# Altium footprint library PcbLib1.PcbLib: 202 footprints (part 11 of 13)
Each footprint in its own frame and in the unit in brackets; x right, y up, seen from the top. Pads: shape width x height; smd on the part's side, far side on the other; paste and mask are expansions set on the pad; w line width, h text height; cw(c..) or ccw(c..) is an arc to the next point about the centre after c.
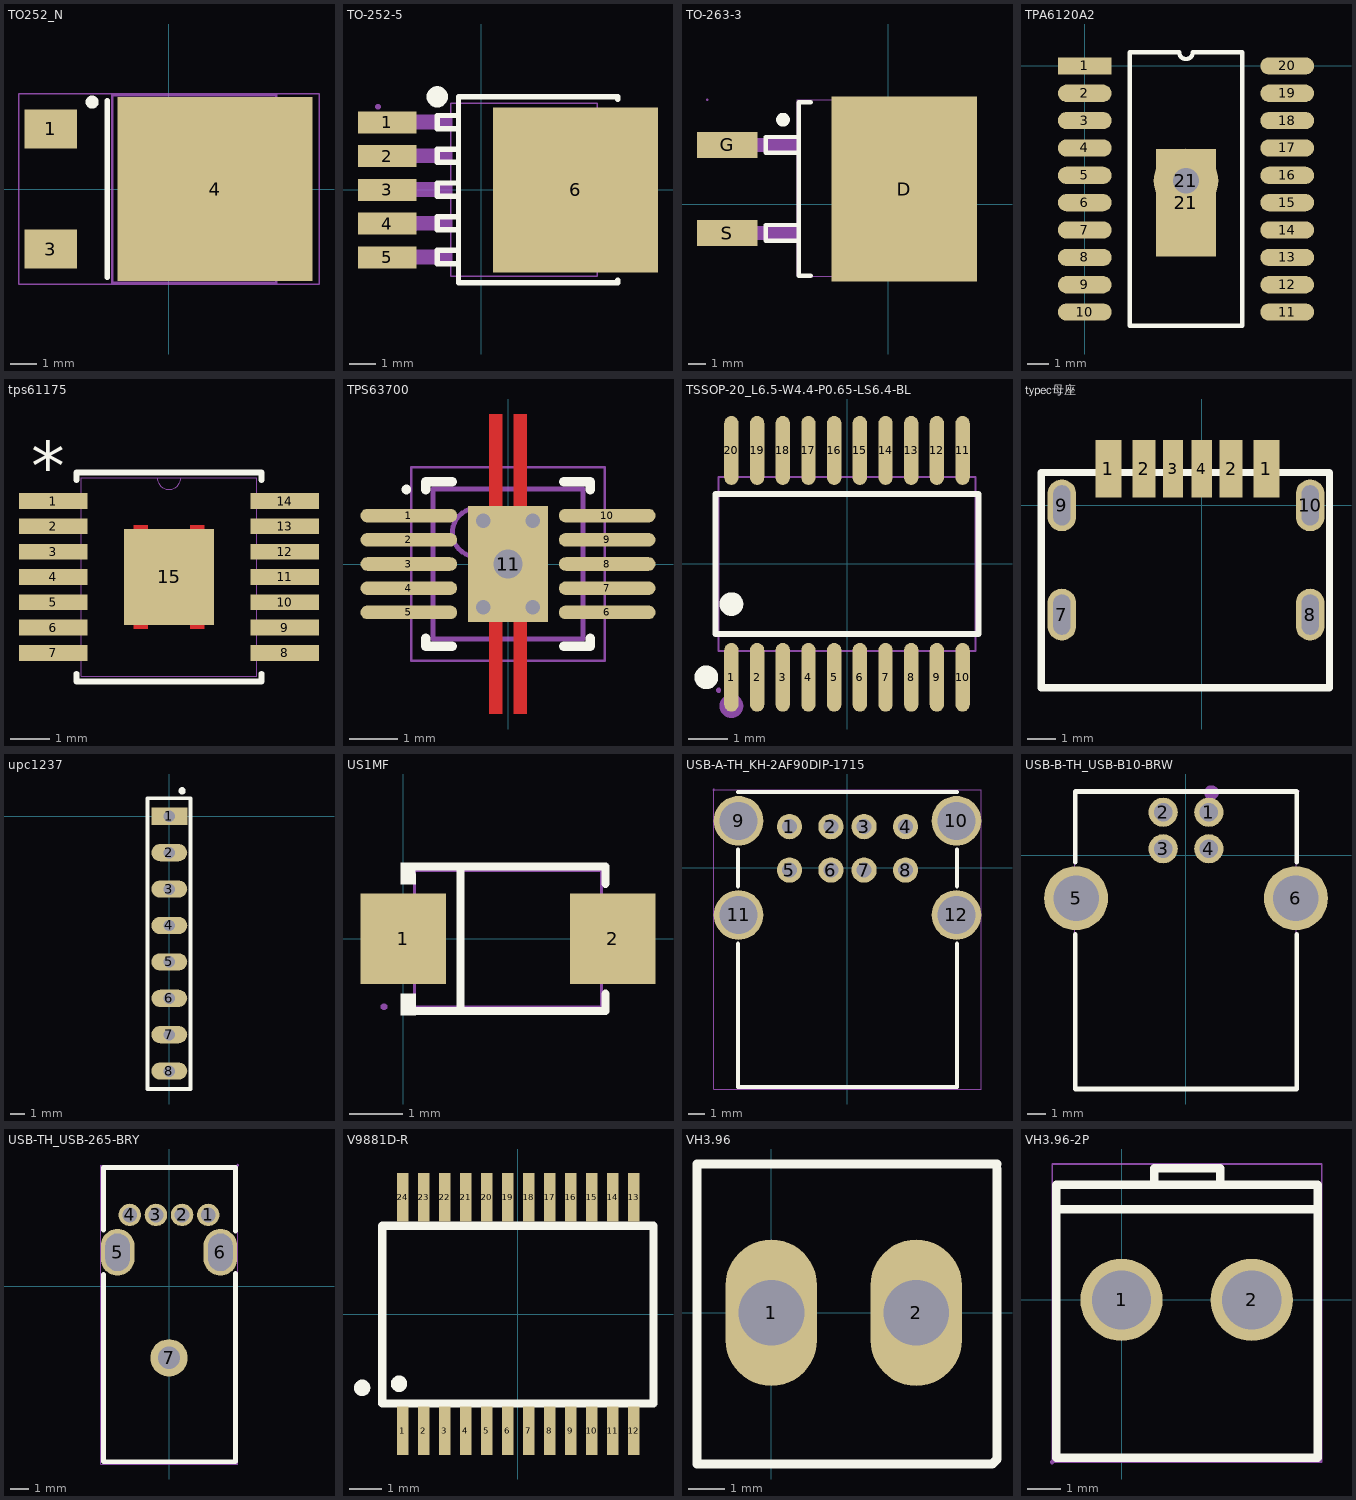
[diagram p10: the footprints below, top view; thin cyan lines are the x and y axes]

## TO252_N [mm] "D-PAK, 4-Leads, Body 6.1x6.6mm, Pitch 2.28mm, Lead Span 10mm, IPC Medium Density"
height 2.39
pads (3):
  rect 2x1.5 smd: 1(-4.5,2.28) 3(-4.5,-2.28)
  rect 7.4x7 smd: 4(1.75,0)
Top Overlay:
  circle w0.25: c-2.921,3.302 r0.125
  lines w0.2: -2.35,-3.35 -2.35,3.35
Mechanical 13:
  lines w0.1: -2.15,-3.556 -2.15,3.556 4.07,3.556 4.07,-3.556 -2.15,-3.556
Mechanical 15:
  lines w0.05: -5.7,-3.625 -5.7,3.625 5.7,3.625 5.7,-3.625 -5.7,-3.625
  lines w0.1: -0.5,0 0.5,0 ; 0,-0.5 0,0.5
3D body: height 2.39, standoff 0.03, extent -2.15,-3.375 4.07,3.375

## TO-252-5 [mil]
pads (6):
  rect 86.61x32.5 smd mask+2: 1(-139.5,100) 2(-139.5,50) 3(-139.5,0) 4(-139.5,-50) 5(-139.5,-100)
  rect 244.5x244.5 smd mask+2: 6(139.5,0)
Top Overlay:
  lines w7.9: -37.9,-109.4 -65.4,-109.4 -65.4,-89.8 -37.9,-89.8 ; -37.9,-59.4 -65.4,-59.4 -65.4,-39.8 -37.9,-39.8 ; -37.9,-9.4 -65.4,-9.4 -65.4,10.2 -37.9,10.2 ; -37.9,40.6 -65.4,40.6 -65.4,60.2 -37.9,60.2 ; -37.9,90.6 -65.4,90.6 -65.4,110.2 -37.9,110.2 ; 202.3,-133.9 202.3,-137.8 -33.9,-137.8 -33.9,137.8 202.3,137.8 202.3,133.9
  lines w15.7: -65.4,145.7 ccw(c-65.35,137.8) -65.3,145.7
Mechanical 6:
  circle w11.81: c-162,99 r5.91
Mechanical 15:
  region: -98,90 -98,110.87 -42.88,110.87 -42.88,90
  region: -98,40 -98,60.87 -42.88,60.87 -42.88,40
  region: -98,-10 -98,10.87 -42.88,10.87 -42.88,-10
  region: -98,-60 -98,-39.13 -42.88,-39.13 -42.88,-60
  region: -98,-110 -98,-89.13 -42.88,-89.13 -42.88,-110
  region: -155.25,89.57 -155.25,110.43 -96.19,110.43 -96.19,89.57
  region: -155.25,39.57 -155.25,60.43 -96.19,60.43 -96.19,39.57
  region: -155.25,-10.43 -155.25,10.43 -96.19,10.43 -96.19,-10.43
  region: -155.25,-60.43 -155.25,-39.57 -96.19,-39.57 -96.19,-60.43
  region: -155.25,-110.43 -155.25,-89.57 -96.19,-89.57 -96.19,-110.43
  region: 72,-104 72,104.66 229.48,104.66 229.48,-104
  region: -149.34,123 -149.34,124.63 -151.65,126.94 -154.91,126.94 -157.22,124.63 -157.22,123 -157.22,121.37 -154.91,119.06 -151.65,119.06 -149.34,121.37
  lines w2: -45,-127.91 171.53,-127.91 171.53,128 -45,128 -45,-127.91

## TO-263-3 [mm]
pads (3):
  rect 8.38x10.7 smd mask+0.051: D(0.915,0.889)
  rect 3.504x1.5 smd mask+0.051: G(-9.297,3.429) S(-9.297,-1.651)
Top Overlay:
  lines w0.254: -5.185,-2.091 -7.084,-2.091 -7.084,-1.191 -5.185,-1.191 ; -5.185,2.989 -7.084,2.989 -7.084,3.889 -5.185,3.889 ; -4.485,-4.111 -5.185,-4.111 -5.185,5.889 -4.485,5.889
  lines w0.4: -6.087,4.689 cw(c-6.086,4.889) -6.085,4.689
Mechanical 6:
  circle w0.3: c-10.541,3.556 r0.15
Mechanical 15:
  region: -10.393,6.044 -10.393,6.069 -10.428,6.104 -10.478,6.104 -10.513,6.069 -10.513,6.044 -10.513,6.019 -10.478,5.984 -10.428,5.984 -10.393,6.019
  region: 4.572,5.969 4.572,-4.191 -2.963,-4.191 -2.963,5.969
  region: -7.553,3.829 -7.553,3.029 -10.453,3.029 -10.453,3.829
  region: -7.553,-1.251 -7.553,-2.051 -10.453,-2.051 -10.453,-1.251
  region: -7.62,3.048 -7.62,3.81 -5.191,3.81 -5.191,3.048 -7.62,3.048
  region: -7.62,-2.032 -7.62,-1.27 -5.191,-1.27 -5.191,-2.032 -7.62,-2.032
  lines w0.051: -5.272,-4.156 -5.272,6.044 4.528,6.044 4.528,-4.156 -5.272,-4.156

## TPA6120A2 [mm]
pads (22):
  rect 2.5x0.8 smd: 1(0,0)
  oval 2.5x0.8 smd: 2(0,-1.27) 3(0,-2.54) 4(0,-3.81) 5(0,-5.08) 6(0,-6.35) 7(0,-7.62) 8(0,-8.89) 9(0,-10.16) 10(0,-11.43) 11(9.4,-11.43) 12(9.4,-10.16) 13(9.4,-8.89) 14(9.4,-7.62) 15(9.4,-6.35) 16(9.4,-5.08) 17(9.4,-3.81) 18(9.4,-2.54) 19(9.4,-1.27) 20(9.4,0)
  rect 2.79x5 smd: 21(4.699,-6.35)
  round 3 hole 1.2: 21(4.699,-5.334)
Top Overlay:
  lines w0.2: 2.085,-12.065 2.085,0.635 4.382,0.635 ccw(c4.7,0.635) 5.017,0.635 7.315,0.635 7.315,-12.065 2.085,-12.065

## tps61175 [mm]
pads (15):
  rect 1.762x0.405 smd paste+0 mask+0: 1(21.921,15.92) 2(21.921,15.27) 3(21.921,14.62) 4(21.921,13.97) 5(21.921,13.32) 6(21.921,12.67) 7(21.921,12.02) 8(27.863,12.02) 9(27.863,12.67) 10(27.863,13.32) 11(27.863,13.97) 12(27.863,14.62) 13(27.863,15.27) 14(27.863,15.92)
  rect 2.31x2.46 smd paste+0 mask+0: 15(24.892,13.97)
Top Layer:
  region: 24.892,15.2
  region: 24.892,12.74
  region: 25.792,15.2 25.442,15.2 25.442,15.3 25.792,15.3
  region: 23.992,15.2 24.342,15.2 24.342,15.3 23.992,15.3
  region: 23.992,12.74 24.342,12.74 24.342,12.64 23.992,12.64
  region: 25.792,12.74 25.442,12.74 25.442,12.64 25.792,12.64
Top Overlay:
  lines w0.152: 22.517,11.485 22.517,11.29 27.267,11.29 27.267,11.485 ; 22.517,16.455 22.517,16.65 27.267,16.65 27.267,16.455
  text "*" at 21.35,16.198 h1.27
Top Paste:
  region: 26.047,15.2 23.737,15.2 23.737,12.74 26.047,12.74
Top Solder:
  region: 24.892,15.2
  region: 24.892,12.74
  region: 25.792,15.2 25.442,15.2 25.442,15.3 25.792,15.3
  region: 23.992,15.2 24.342,15.2 24.342,15.3 23.992,15.3
  region: 23.992,12.74 24.342,12.74 24.342,12.64 23.992,12.64
  region: 25.792,12.74 25.442,12.74 25.442,12.64 25.792,12.64
Mechanical 13:
  lines w0: 24.587,16.523 ccw(c24.892,16.523) 25.197,16.523
  lines w0.025: 21.59,11.868 21.59,12.172 22.644,12.172 22.644,11.868 21.59,11.868 ; 21.59,12.518 21.59,12.822 22.644,12.822 22.644,12.518 21.59,12.518 ; 21.59,13.168 21.59,13.472 22.644,13.472 22.644,13.168 21.59,13.168 ; 21.59,13.818 21.59,14.122 22.644,14.122 22.644,13.818 21.59,13.818 ; 21.59,14.468 21.59,14.772 22.644,14.772 22.644,14.468 21.59,14.468 ; 21.59,15.118 21.59,15.422 22.644,15.422 22.644,15.118 21.59,15.118 ; 21.59,15.768 21.59,16.072 22.644,16.072 22.644,15.768 21.59,15.768 ; 22.644,11.417 27.14,11.417 27.14,16.523 22.644,16.523 22.644,11.417 ; 27.14,11.868 27.14,12.172 28.194,12.172 28.194,11.868 27.14,11.868 ; 27.14,12.518 27.14,12.822 28.194,12.822 28.194,12.518 27.14,12.518 ; 27.14,13.168 27.14,13.472 28.194,13.472 28.194,13.168 27.14,13.168 ; 27.14,13.818 27.14,14.122 28.194,14.122 28.194,13.818 27.14,13.818 ; 27.14,14.468 27.14,14.772 28.194,14.772 28.194,14.468 27.14,14.468 ; 27.14,15.118 27.14,15.422 28.194,15.422 28.194,15.118 27.14,15.118 ; 27.14,15.768 27.14,16.072 28.194,16.072 28.194,15.768 27.14,15.768
3D body: height 0.25, standoff 0, extent 24.892,13.97 25.146,14.224

## TPS63700 [mm] "SON, 10-Leads, Body 3x3mm, Pitch 0.5mm, Thermal Pad 2.4x1.65mm, TI Recommended"
height 1
pads (12):
  oval 2x0.28 smd paste-0.025 mask+0.07: 1(-2.05,1) 2(-2.05,0.5) 3(-2.05,0) 4(-2.05,-0.5) 5(-2.05,-1) 6(2.05,-1) 7(2.05,-0.5) 8(2.05,0) 9(2.05,0.5) 10(2.05,1)
  rect 1.65x2.4 smd paste-0.825 mask+0.07: 11(0,0)
  round 1.2 hole 0.6: 11(0,0)
via 0.508,-0.889 diameter 0.5 hole 0.3
via -0.508,-0.889 diameter 0.5 hole 0.3
via 0.508,0.889 diameter 0.5 hole 0.3
via -0.508,0.889 diameter 0.5 hole 0.3
Top Layer:
  rectangle: -0.39,-3.1 -0.11,-1.1
  region: 0.39,-1.1 0.11,-1.1 0.11,-3.1 0.39,-3.1
  region: 0.39,3.1 0.11,3.1 0.11,1.1 0.39,1.1
  rectangle: -0.39,1.1 -0.11,3.1
Top Overlay:
  circle w0.1: c-2.1,1.54 r0.05
  lines w0.2: -1.7,-1.54 -1.7,-1.7 -1.15,-1.7 ; -1.7,1.54 -1.7,1.7 -1.15,1.7 ; 1.15,-1.7 1.7,-1.7 1.7,-1.54 ; 1.15,1.7 1.7,1.7 1.7,1.54
Top Paste:
  rectangle: -0.79,-1.16 -0.11,-0.11
  region: 0.79,-0.11 0.11,-0.11 0.11,-1.16 0.79,-1.16
  region: 0.79,1.16 0.11,1.16 0.11,0.11 0.79,0.11
  rectangle: -0.38,-1.88 -0.12,-1.38
  region: 0.38,-1.38 0.12,-1.38 0.12,-1.88 0.38,-1.88
  region: 0.38,1.88 0.12,1.88 0.12,1.38 0.38,1.38
  rectangle: -0.38,1.38 -0.12,1.88
  rectangle: -0.79,0.11 -0.11,1.16
Mechanical 13:
  circle w0.1: c-0.65,0.65 r0.5
  lines w0.1: -1.55,-1.55 1.55,-1.55 1.55,1.55 -1.55,1.55 -1.55,-1.55
Mechanical 15:
  lines w0.05: -2,-2 2,-2 2,2 -2,2 -2,-2
3D body: height 1, standoff 0, extent -1.55,-1.55 1.55,1.55

## TSSOP-20_L6.5-W4.4-P0.65-LS6.4-BL [mm]
pads (20):
  oval 0.364x1.742 smd: 1(-2.925,-2.871) 2(-2.275,-2.871) 3(-1.625,-2.871) 4(-0.975,-2.871) 5(-0.325,-2.871) 6(0.325,-2.871) 7(0.975,-2.871) 8(1.625,-2.871) 9(2.275,-2.871) 10(2.925,-2.871) 11(2.925,2.871) 12(2.275,2.871) 13(1.625,2.871) 14(0.975,2.871) 15(0.325,2.871) 16(-0.325,2.871) 17(-0.975,2.871) 18(-1.625,2.871) 19(-2.275,2.871) 20(-2.925,2.871)
Top Overlay:
  circle w0.3: c-3.559,-2.871 r0.15
  circle w0.3: c-2.925,-1.019 r0.15
  lines w0.152: -3.326,-1.771 3.326,-1.771 3.326,1.771 -3.326,1.771 -3.326,-1.771
Mechanical 6:
  circle w0.3: c-2.925,-3.6 r0.15
Mechanical 15:
  drawing of 45 lines, arcs and shapes, not listed

## typec母座 [mm]
pads (10):
  rect 0.9x2 smd: 1(-3.25,1.27) 1(2.25,1.27)
  rect 0.8x2 smd: 2(-2.02,1.27) 2(1.02,1.27)
  rect 0.7x2 smd: 3(-1,1.27) 4(0,1.27)
  oval 1x1.8 hole 0.6 slot 1.4 at 90 deg: 7(-4.87,-3.8) 8(3.77,-3.8) 9(-4.87,0) 10(3.77,0)
Top Overlay:
  lines w0.254: -5.588,-6.35 4.445,-6.35 4.445,1.143 -5.588,1.143 -5.588,-6.35

## upc1237 [mm]
pads (8):
  rect 2.5x1.2 hole 0.8: 1(0,0)
  oval 2.5x1.2 hole 0.8: 2(0,-2.54) 3(0,-5.08) 4(0,-7.62) 5(0,-10.16) 6(0,-12.7) 7(0,-15.24) 8(0,-17.78)
Top Overlay:
  circle w0.254: c0.889,1.778 r0.127
  lines w0.254: -1.524,-19.03 -1.524,1.27 1.476,1.27 1.476,-19.03 -1.524,-19.03

## US1MF [mm]
pads (2):
  rect 1.6x1.7 smd mask+0.051: 1(0,0) 2(3.92,0)
Top Overlay:
  region: 0.22,1.42 -0.05,1.42 -0.05,1.02 0.23,1.02
  region: -0.05,-1.43 0.23,-1.43 0.23,-1.03 -0.05,-1.03
  lines w0.152: 0.134,-1.351 3.786,-1.351 3.786,-1.03 ; 0.134,1.351 3.786,1.351 3.786,1.03 ; 1.068,-1.351 1.068,1.351
Mechanical 6:
  region: -0.672,0.183 -0.672,-0.123 0.552,-0.123 0.552,0.183
  region: 4.379,0.083 4.379,-0.223 3.155,-0.223 3.155,0.083
  region: 3.614,-0.682 3.92,-0.682 3.92,0.542 3.614,0.542
Mechanical 15:
  region: -0.305,-1.275 -0.305,-1.25 -0.34,-1.215 -0.39,-1.215 -0.425,-1.25 -0.425,-1.275 -0.425,-1.3 -0.39,-1.335 -0.34,-1.335 -0.305,-1.3
  region: -0.365,-0.725 -0.365,0.725 0.635,0.725 0.635,-0.725
  region: 4.285,-0.725 4.285,0.725 3.285,0.725 3.285,-0.725
  lines w0.051: 0.21,-1.275 0.21,1.275 3.71,1.275 3.71,-1.275 0.21,-1.275

## USB-A-TH_KH-2AF90DIP-1715 [mil]
pads (12):
  round 60 hole 36: 1(-137.8,98.03) 2(-39.37,98.03) 3(39.37,98.03) 4(137.79,98.03) 5(-137.8,-5.12) 6(-39.37,-5.12) 7(39.37,-5.12) 8(137.79,-5.12)
  round 118.11 hole 90.55: 9(-258.66,111.81) 10(258.66,111.81) 11(-258.66,-111.81) 12(258.66,-111.81)
Top Overlay:
  lines w10: -260,-179.95 -260,-520 260,-520 260,-179.95 ; -260,-43.67 -260,43.67 ; -260,180 260,180 260,179.95 ; 260,-43.67 260,43.67
Mechanical 15:
  drawing of 17 lines, arcs and shapes, not listed

## USB-B-TH_USB-B10-BRW [mm]
pads (6):
  round 1.6 hole 1: 1(1.25,2.355) 2(-1.25,2.355) 3(-1.25,0.355) 4(1.25,0.355)
  round 3.5 hole 2.5: 5(-6.02,-2.355) 6(6.02,-2.355)
Top Overlay:
  lines w0.254: -6.075,-4.335 -6.075,-12.805 6.075,-12.805 6.075,-4.335 ; -6.075,-0.375 -6.075,3.495 6.075,3.495 6.075,-0.375
Mechanical 6:
  circle w0.4: c1.397,3.429 r0.2
Mechanical 15:
  region: 6.205,3.512 6.204,3.536 6.169,3.57 6.121,3.57 6.086,3.536 6.085,3.512 6.086,3.488 6.121,3.454 6.169,3.454 6.204,3.488
  region: -1.5,2.255 -1.5,2.455 -1,2.455 -1,2.255
  region: 1,2.255 1,2.455 1.5,2.455 1.5,2.255
  region: 1,0.255 1,0.455 1.5,0.455 1.5,0.255
  region: -1.5,0.255 -1.5,0.455 -1,0.455 -1,0.255
  region: -6.145,-1.455 -5.895,-1.455 -5.895,-3.255 -6.145,-3.255
  region: 5.895,-1.455 6.145,-1.455 6.145,-3.255 5.895,-3.255
  lines w0.051: -6.1,-12.805 -6.1,3.495 6.05,3.495 6.05,-12.788 -6.1,-12.805

## USB-TH_USB-265-BRY [mm]
pads (7):
  round 1.2 hole 0.8: 1(2.1,3.825) 2(0.7,3.825) 3(-0.7,3.825) 4(-2.1,3.825)
  oval 1.8x2.5 hole 1.3 slot 2 at 90 deg: 5(-2.75,1.825) 6(2.75,1.825)
  round 2 hole 1.2: 7(0,-3.825)
Top Overlay:
  lines w0.254: -3.5,0.629 -3.5,-9.383 3.556,-9.383 3.556,0.682 ; -3.5,3.021 -3.5,6.365 3.5,6.365 ; 3.556,2.968 3.556,6.365
Mechanical 15:
  region: 0.5,-3.825 0.498,-3.727 0.421,-3.545 0.281,-3.407 0.099,-3.333 -0.098,-3.333 -0.281,-3.407 -0.421,-3.545 -0.498,-3.727 -0.5,-3.825 -0.498,-3.923 -0.421,-4.104 -0.281,-4.243 -0.098,-4.317 0.099,-4.317 0.281,-4.243 0.421,-4.105 0.498,-3.923
  region: 2.23,1.475 2.23,2.175 3.27,2.175 3.27,1.475
  region: -3.27,1.475 -3.27,2.175 -2.23,2.175 -2.23,1.475
  region: -1.8,3.825 -1.8,3.885 -1.846,3.995 -1.93,4.079 -2.04,4.125 -2.16,4.125 -2.27,4.079 -2.355,3.995 -2.4,3.885 -2.4,3.825 -2.4,3.765 -2.355,3.655 -2.27,3.571 -2.16,3.525 -2.04,3.525 -1.93,3.571 -1.846,3.655 -1.8,3.765
  region: -0.4,3.825 -0.4,3.885 -0.446,3.995 -0.53,4.079 -0.64,4.125 -0.76,4.125 -0.87,4.079 -0.954,3.995 -1,3.885 -1,3.825 -1,3.765 -0.955,3.655 -0.87,3.571 -0.76,3.525 -0.64,3.525 -0.53,3.571 -0.446,3.655 -0.4,3.765
  region: 1,3.825 1,3.885 0.954,3.995 0.87,4.079 0.76,4.125 0.64,4.125 0.53,4.079 0.446,3.995 0.4,3.885 0.4,3.825 0.4,3.765 0.446,3.655 0.53,3.571 0.64,3.525 0.76,3.525 0.87,3.571 0.954,3.655 1,3.765
  region: 2.4,3.825 2.4,3.885 2.354,3.995 2.27,4.079 2.16,4.125 2.04,4.125 1.93,4.079 1.846,3.995 1.8,3.885 1.8,3.825 1.8,3.765 1.846,3.655 1.93,3.571 2.04,3.525 2.16,3.525 2.27,3.571 2.354,3.655 2.4,3.765
  region: 3.743,6.492 3.742,6.516 3.707,6.55 3.659,6.55 3.624,6.516 3.623,6.492 3.624,6.468 3.659,6.434 3.707,6.434 3.742,6.468
  lines w0.051: -3.65,-9.51 -3.65,6.492 3.683,6.492 3.683,-9.51 -3.65,-9.51

## V9881D-R [mm]
pads (24):
  rect 0.35x1.5 smd paste+0.102 mask+0.051: 1(-3.565,-3.619) 2(-2.915,-3.619) 3(-2.265,-3.619) 4(-1.615,-3.619) 5(-0.965,-3.619) 6(-0.315,-3.619) 7(0.335,-3.619) 8(0.985,-3.619) 9(1.635,-3.619) 10(2.285,-3.619) 11(2.935,-3.619) 12(3.585,-3.619) 13(3.585,3.619) 14(2.935,3.619) 15(2.285,3.619) 16(1.635,3.619) 17(0.985,3.619) 18(0.335,3.619) 19(-0.315,3.619) 20(-0.965,3.619) 21(-1.615,3.619) 22(-2.265,3.619) 23(-2.915,3.619) 24(-3.565,3.619)
Top Overlay:
  circle w0.254: c-4.826,-2.286 r0.127
  circle w0.254: c-3.683,-2.159 r0.127
  lines w0.254: -4.2,-2.77 4.2,-2.77 4.2,2.73 -4.2,2.73 -4.2,-2.77

## VH3.96 [mm]
pads (2):
  oval 2.5x4 hole 1.8: 1(0,0) 2(3.96,0)
Top Overlay:
  lines w0.254: 6.168,3.937 6.168,-4.009 6.041,-4.136 -2.032,-4.136 -2.032,4.064 6.168,4.064

## VH3.96-2P [mm]
pads (2):
  round 2.5 hole 1.8 mask+0.051: 1(0,0) 2(3.96,0)
Top Overlay:
  lines w0.254: -1.98,-4.8 -1.98,3.5 ; -1.96,-4.8 5.96,-4.8 5.96,3.5 -1.96,3.5 ; -1.96,2.75 5.96,2.75 ; 0.999,3.502 0.999,4.003 2.999,4.003 2.999,3.502
Mechanical 15:
  region: 4.76,0 4.76,0.105 4.706,0.309 4.6,0.491 4.451,0.64 4.269,0.746 4.065,0.8 3.855,0.8 3.651,0.746 3.469,0.64 3.32,0.491 3.215,0.309 3.16,0.105 3.16,0 3.16,-0.105 3.215,-0.309 3.32,-0.491 3.469,-0.64 3.651,-0.746 3.855,-0.8 4.065,-0.8 4.269,-0.746 4.451,-0.64 4.6,-0.491 4.706,-0.309 4.76,-0.105
  region: 0.8,0 0.8,0.105 0.746,0.309 0.64,0.491 0.491,0.64 0.309,0.746 0.105,0.8 -0.105,0.8 -0.309,0.746 -0.491,0.64 -0.64,0.491 -0.746,0.309 -0.8,0.105 -0.8,0 -0.8,-0.105 -0.746,-0.309 -0.64,-0.491 -0.491,-0.64 -0.309,-0.746 -0.105,-0.8 0.105,-0.8 0.309,-0.746 0.491,-0.64 0.64,-0.491 0.746,-0.309 0.8,-0.105
  region: -2.047,-4.927 -2.047,-4.902 -2.082,-4.867 -2.132,-4.867 -2.167,-4.902 -2.167,-4.927 -2.167,-4.952 -2.132,-4.987 -2.082,-4.987 -2.047,-4.952
  lines w0.051: -2.107,-4.927 -2.107,4.13 6.087,4.13 6.087,-4.927 -2.107,-4.927